# Altium footprint library XT60PW-F.PcbLib: 1 footprints
Each footprint in its own frame and in the unit in brackets; x right, y up, seen from the top. Pads: shape width x height; smd on the part's side, far side on the other; paste and mask are expansions set on the pad; w line width, h text height; cw(c..) or ccw(c..) is an arc to the next point about the centre after c.
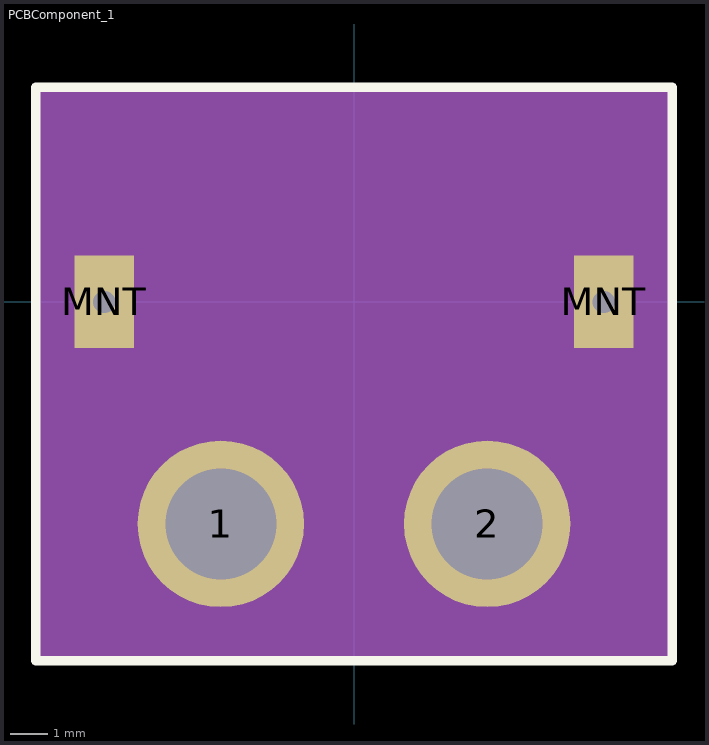
[diagram p0: the footprint, top view; thin cyan lines are the x and y axes]

## PCBComponent_1 [mm]
pads (4):
  round 4.5 hole 3: 1(-3.6,-6) 2(3.6,-6)
  rect 1.6x2.5 hole 0.6 square: MNT(-6.75,0) MNT(6.75,0)
Top Overlay:
  lines w0.254: -8.6,-9.7 8.6,-9.7 8.6,5.8 -8.6,5.8 -8.6,-9.7
Mechanical 1:
  region: 8.5,-9.7 8.5,5.8 -8.7,5.8 -8.7,-9.7